# EAGLE library part OPA551-DIP (library opamps)
OPA551: High voltage, high current opamp (Burr-Brown) ±30V, ±200mA, 100pA bias 3mV offset, 3MHz UGF, 14nV/rt(Hz) noise
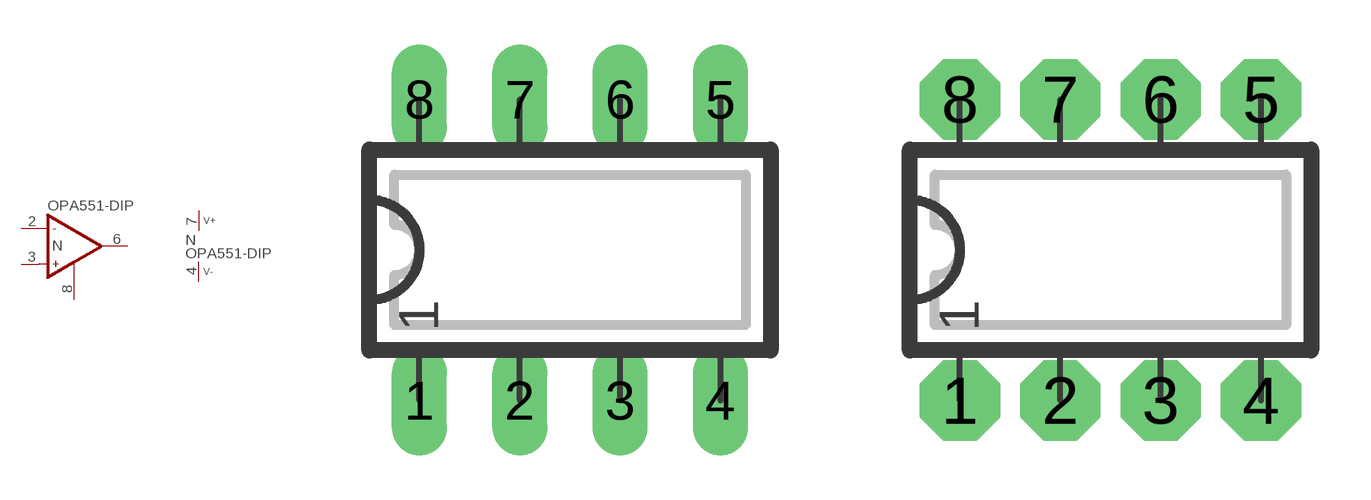
[diagram p285: symbol with the pads of DIP08L; footprints DIP08L, DIP08N]

Designator prefix N; gates A=OP_R P=V+-

## OPA551-DIP  [DIP08L]
2  A:IN-  in
3  A:IN+  in
4  P:V-  pwr
6  A:OUT  out
7  P:V+  pwr
8  A:OPF

## OPA551-DIPL  [DIP08L]
Pads as for DIP08L

## OPA551-DIPN  [DIP08N]
Pads as for DIP08L

## OPA551-DIPR  [DIP08R]
Pads as for DIP08L

## Footprint DIP08L (pad centres in mm)
DIP-8, long pads Standard IC package, 8 pins
drill 0.813 pad 1.397 long: 1 -3.81,-3.81; 2 -1.27,-3.81; 3 1.27,-3.81; 4 3.81,-3.81; 5 3.81,3.81; 6 1.27,3.81; 7 -1.27,3.81; 8 -3.81,3.81

## Footprint DIP08N (pad centres in mm)
DIP-8 Standard IC package, 8 pins
drill 0.813 pad 2.032 octagon: 1 -3.81,-3.81; 2 -1.27,-3.81; 3 1.27,-3.81; 4 3.81,-3.81; 5 3.81,3.81; 6 1.27,3.81; 7 -1.27,3.81; 8 -3.81,3.81

## Footprint DIP08R (pad centres in mm)
DIP-8, reduced pads Standard IC package, 8 pins
drill 0.813 pad 1.397 square: 1 -3.81,-3.81; 2 -1.27,-3.81; 3 1.27,-3.81; 4 3.81,-3.81; 5 3.81,3.81; 6 1.27,3.81; 7 -1.27,3.81; 8 -3.81,3.81